# EAGLE library part PP110-20-3.25X4.25 (library NewSDR)
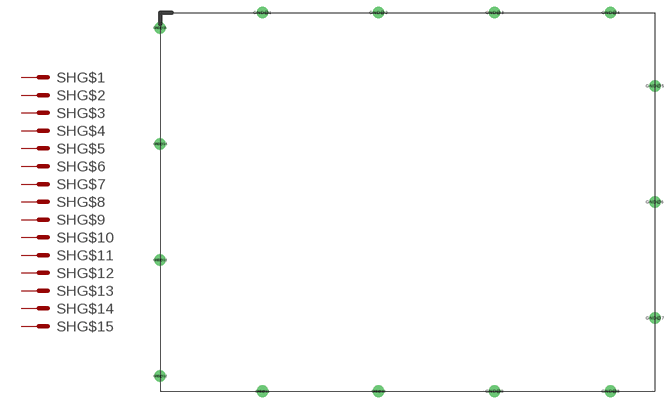
[diagram p29: symbol with the pads of PP110-20-3.25X4.25; footprint PP110-20-3.25X4.25]

Designator prefix SH; gates G$1=MS G$2=MS G$3=MS G$4=MS G$5=MS G$6=MS G$7=MS G$8=MS G$9=MS G$10=MS G$11=MS G$12=MS G$13=MS G$14=MS G$15=MS

## PP110-20-3.25X4.25  [PP110-20-3.25X4.25]
GND@1  G$1:MS  pas
GND@2  G$2:MS  pas
GND@3  G$3:MS  pas
GND@4  G$4:MS  pas
GND@5  G$5:MS  pas
GND@6  G$6:MS  pas
GND@7  G$7:MS  pas
GND@8  G$8:MS  pas
GND@9  G$9:MS  pas
GND@10  G$10:MS  pas
GND@11  G$11:MS  pas
GND@12  G$12:MS  pas
GND@13  G$13:MS  pas
GND@14  G$14:MS  pas
GND@15  G$15:MS  pas

## Footprint PP110-20-3.25X4.25 (pad centres in mm)
drill 1.27 pad 2.54: GND@1 22.377,0; GND@2 47.777,0; GND@3 73.177,0; GND@4 98.577,0; GND@5 108.255,-16.027; GND@6 108.255,-41.427; GND@7 108.255,-66.827; GND@8 98.577,-82.855; GND@9 73.177,-82.855; GND@10 47.777,-82.855; GND@11 22.377,-82.855; GND@12 0,-79.527; GND@13 0,-54.127; GND@14 0,-28.727; GND@15 0,-3.327